# Altium footprint library Crystals.PcbLib: 26 footprints (part 2 of 2)
Each footprint in its own frame and in the unit in brackets; x right, y up, seen from the top. Pads: shape width x height; smd on the part's side, far side on the other; paste and mask are expansions set on the pad; w line width, h text height; cw(c..) or ccw(c..) is an arc to the next point about the centre after c.
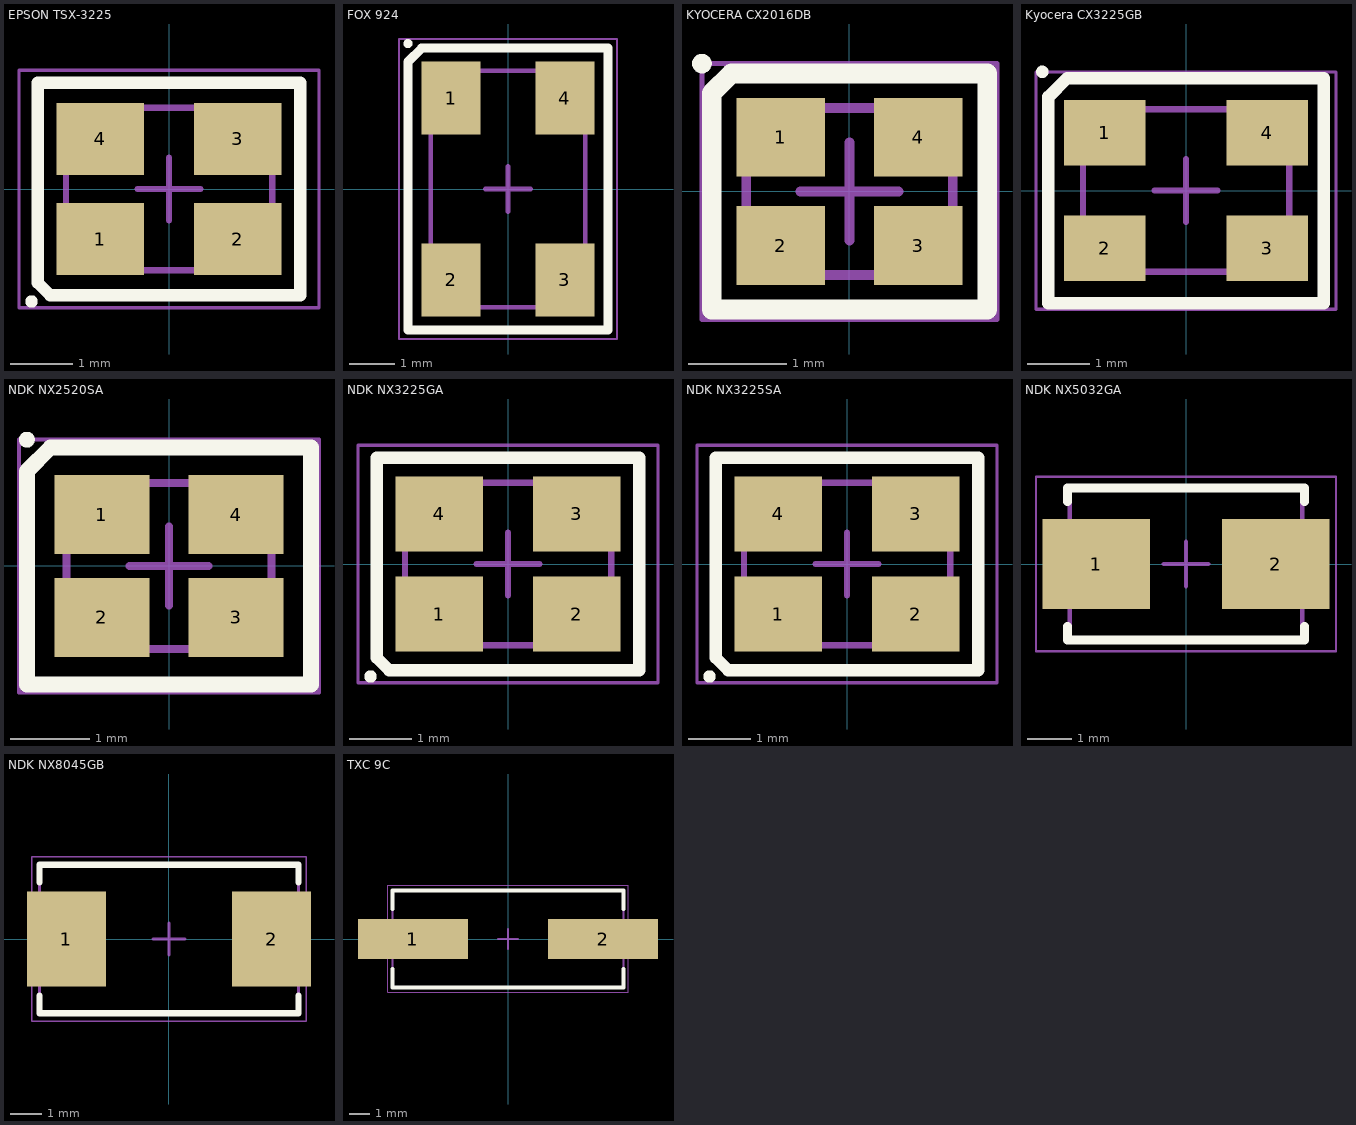
[diagram p1: the footprints below, top view; thin cyan lines are the x and y axes]

## EPSON TSX-3225 [mm] "Crystal, 4-Leads, Body 2.50x3.20mm, Pitch 2.20mm, IPC Medium Density"
height 0.6
pads (4):
  rect 1.4x1.15 smd: 1(-1.1,-0.8) 2(1.1,-0.8) 3(1.1,0.8) 4(-1.1,0.8)
Top Overlay:
  circle w0.1: c-2.2,-1.8 r0.05
  lines w0.2: -2.1,-1.5 -2.1,1.7 2.1,1.7 2.1,-1.7 -1.1,-1.7 -1.9,-1.7 -2.1,-1.5
Mechanical 13:
  lines w0.1: -1.65,-1.3 -1.65,1.3 1.65,1.3 1.65,-1.3 -1.65,-1.3
Mechanical 15:
  lines w0.05: -2.4,-1.9 -2.4,1.9 2.4,1.9 2.4,-1.9 -2.4,-1.9
  lines w0.1: -0.5,0 0.5,0 ; 0,-0.5 0,0.5
3D body "Epson TSX-3225.STEP": height 0.6, standoff 0, extent -1.61,-1.26 1.61,1.26

## FOX 924 [mm] "XO, 4-Leads, Body 5.00x3.20mm, Pitch 3.70mm, IPC Medium Density"
height 1.5
pads (4):
  rect 1.3x1.6 smd: 1(-1.25,2) 2(-1.25,-2) 3(1.25,-2) 4(1.25,2)
Top Overlay:
  circle w0.1: c-2.2,3.2 r0.05
  lines w0.2: -2.2,-3.1 2.2,-3.1 2.2,3.1 -1.9,3.1 -2.2,2.8 -2.2,-3.1
Mechanical 13:
  lines w0.1: -1.7,-2.6 -1.7,2.6 1.7,2.6 1.7,-2.6 -1.7,-2.6
Mechanical 15:
  lines w0.05: -2.4,-3.3 -2.4,3.3 2.4,3.3 2.4,-3.3 -2.4,-3.3
  lines w0.1: -0.5,0 0.5,0 ; 0,-0.5 0,0.5
3D body "FOX924.STEP": height 1.5, standoff 0, extent -1.625,-2.525 1.625,2.525

## KYOCERA CX2016DB [mm] "Crystal, 4-Leads, Body 1.60x2.00mm, Pitch 1.40mm, IPC Medium Density"
height 0.4
pads (4):
  rect 0.9x0.8 smd: 1(-0.7,0.55) 2(-0.7,-0.55) 3(0.7,-0.55) 4(0.7,0.55)
Top Overlay:
  circle w0.1: c-1.5,1.3 r0.05
  lines w0.2: -1.4,-1.2 1.4,-1.2 1.4,1.2 -1.2,1.2 -1.4,1 -1.4,-1.1 -1.4,-1.2
Mechanical 13:
  lines w0.1: -1.05,-0.85 1.05,-0.85 1.05,0.85 -1.05,0.85 -1.05,-0.85
Mechanical 15:
  lines w0.05: -1.5,-1.3 1.5,-1.3 1.5,1.3 -1.5,1.3 -1.5,-1.3
  lines w0.1: -0.5,0 0.5,0 ; 0,-0.5 0,0.5
3D body "Kyocera CX2016DB.STEP": height 0.4, standoff 0, extent -1.025,-0.825 1.025,0.825

## Kyocera CX3225GB [mm] "Crystal, 4-Leads, Body 2.50x3.20mm, Pitch 2.20mm, IPC Medium Density"
height 0.6
pads (4):
  rect 1.3x1.05 smd: 1(-1.3,0.925) 2(-1.3,-0.925) 3(1.3,-0.925) 4(1.3,0.925)
Top Overlay:
  circle w0.1: c-2.3,1.9 r0.05
  lines w0.2: -2.2,-1.8 -2.2,1.5 -1.9,1.8 -1.2,1.8 2.2,1.8 2.2,-1.8 -2.2,-1.8
Mechanical 13:
  lines w0.1: -1.65,-1.3 -1.65,1.3 1.65,1.3 1.65,-1.3 -1.65,-1.3
Mechanical 15:
  lines w0.05: -2.4,-1.9 -2.4,1.9 2.4,1.9 2.4,-1.9 -2.4,-1.9
  lines w0.1: -0.5,0 0.5,0 ; 0,-0.5 0,0.5
3D body "Kyocera CX3225GB.STEP": height 0.85, standoff 0, extent -1.61,-1.26 1.61,1.26

## NDK NX2520SA [mm] "Crystal, 4-Leads, Body 2.00x2.50mm, Pitch 1.70mm, IPC Medium Density"
height 0.5
pads (4):
  rect 1.2x1 smd: 1(-0.85,0.65) 2(-0.85,-0.65) 3(0.85,-0.65) 4(0.85,0.65)
Top Overlay:
  circle w0.1: c-1.8,1.6 r0.05
  lines w0.2: -1.8,-1.5 -1.8,1.2 -1.5,1.5 1.8,1.5 1.8,-1.5 -1.8,-1.5
Mechanical 13:
  lines w0.1: -1.3,-1.05 1.3,-1.05 1.3,1.05 -1.3,1.05 -1.3,-1.05
Mechanical 15:
  lines w0.05: -1.9,-1.6 1.9,-1.6 1.9,1.6 -1.9,1.6 -1.9,-1.6
  lines w0.1: -0.5,0 0.5,0 ; 0,-0.5 0,0.5
3D body "NDK NX2520SA.STEP": height 0.5, standoff 0, extent -1.26,-1.01 1.26,1.01

## NDK NX3225GA [mm] "Crystal, 4-Leads, Body 2.50x3.20mm, Pitch 2.20mm, IPC Medium Density"
height 0.6
pads (4):
  rect 1.4x1.2 smd: 1(-1.1,-0.8) 2(1.1,-0.8) 3(1.1,0.8) 4(-1.1,0.8)
Top Overlay:
  circle w0.1: c-2.2,-1.8 r0.05
  lines w0.2: -2.1,-1.5 -1.9,-1.7 -1.1,-1.7 2.1,-1.7 2.1,1.7 -2.1,1.7 -2.1,-1.5
Mechanical 13:
  lines w0.1: -1.65,-1.3 1.65,-1.3 1.65,1.3 -1.65,1.3 -1.65,-1.3
Mechanical 15:
  lines w0.05: -2.4,-1.9 2.4,-1.9 2.4,1.9 -2.4,1.9 -2.4,-1.9
  lines w0.1: -0.5,0 0.5,0 ; 0,-0.5 0,0.5
3D body "NDK NX3225GA.STEP": height 0.75, standoff 0, extent -1.61,-1.26 1.61,1.26

## NDK NX3225SA [mm] "Crystal, 4-Leads, Body 2.50x3.20mm, Pitch 2.20mm, IPC Medium Density"
height 0.6
pads (4):
  rect 1.4x1.2 smd: 1(-1.1,-0.8) 2(1.1,-0.8) 3(1.1,0.8) 4(-1.1,0.8)
Top Overlay:
  circle w0.1: c-2.2,-1.8 r0.05
  lines w0.2: -2.1,-1.5 -2.1,1.7 2.1,1.7 2.1,-1.7 -1.1,-1.7 -1.9,-1.7 -2.1,-1.5
Mechanical 13:
  lines w0.1: -1.65,-1.3 -1.65,1.3 1.65,1.3 1.65,-1.3 -1.65,-1.3
Mechanical 15:
  lines w0.05: -2.4,-1.9 -2.4,1.9 2.4,1.9 2.4,-1.9 -2.4,-1.9
  lines w0.1: -0.5,0 0.5,0 ; 0,-0.5 0,0.5
3D body "NDK NX3225SA.STEP": height 0.6, standoff 0, extent -1.61,-1.26 1.61,1.26

## NDK NX5032GA [mm] "Crystal, 2-Leads, Body 5.00x3.20mm, IPC Medium Density"
height 1.3
pads (2):
  rect 2.4x2 smd: 1(-2,0) 2(2,0)
Top Overlay:
  lines w0.2: -2.65,-1.4 -2.65,-1.7 2.65,-1.7 2.65,-1.4 ; -2.65,1.4 -2.65,1.7 2.65,1.7 2.65,1.4
Mechanical 13:
  lines w0.1: -2.6,-1.7 -2.6,1.7 2.6,1.7 2.6,-1.7 -2.6,-1.7
Mechanical 15:
  lines w0.05: -3.35,-1.95 -3.35,1.95 3.35,1.95 3.35,-1.95 -3.35,-1.95
  lines w0.1: -0.5,0 0.5,0 ; 0,-0.5 0,0.5
3D body "NDK NX5032GA.STEP": height 1.2, standoff 0, extent -2.5,-1.6 2.5,1.6

## NDK NX8045GB [mm] "Crystal, 2-Leads, Body 4.50x8.00mm, Pitch 6.50mm, IPC Medium Density"
height 1.8
pads (2):
  rect 2.5x3 smd: 1(-3.25,0) 2(3.25,0)
Top Overlay:
  lines w0.2: -4.1,-1.8 -4.1,-2.35 4.1,-2.35 4.1,-1.8 ; -4.1,1.8 -4.1,2.35 4.1,2.35 4.1,1.8
Mechanical 13:
  lines w0.1: -4.1,-2.35 4.1,-2.35 4.1,2.35 -4.1,2.35 -4.1,-2.35
Mechanical 15:
  lines w0.05: -4.35,-2.6 4.35,-2.6 4.35,2.6 -4.35,2.6 -4.35,-2.6
  lines w0.1: -0.5,0 0.5,0 ; 0,-0.5 0,0.5
3D body "NDK NX8045GB.STEP": height 1.8, standoff 0, extent -4,-2.25 4,2.25

## TXC 9C [mm] "Crystal, 2-Leads, Body 4.70x11.40mm, Pitch 8.80mm, IPC Medium Density"
height 4.2
pads (2):
  rect 5.5x2 smd: 1(-4.75,0) 2(4.75,0)
Top Overlay:
  lines w0.2: -5.775,-1.5 -5.775,-2.425 5.775,-2.425 5.775,-1.5 ; -5.775,1.5 -5.775,2.425 5.775,2.425 5.775,1.5
Mechanical 13:
  lines w0.1: -5.775,-2.425 -5.775,2.425 5.775,2.425 5.775,-2.425 -5.775,-2.425
Mechanical 15:
  lines w0.05: -6.025,-2.675 -6.025,2.675 6.025,2.675 6.025,-2.675 -6.025,-2.675
  lines w0.1: -0.5,0 0.5,0 ; 0,-0.5 0,0.5
3D body "HC49US SMT Crystal.STEP": height 4.2, standoff 0, extent -6.35,-2.35 6.35,2.35